# EAGLE library part IDE40 (library conn)
40 pin IDE connector.
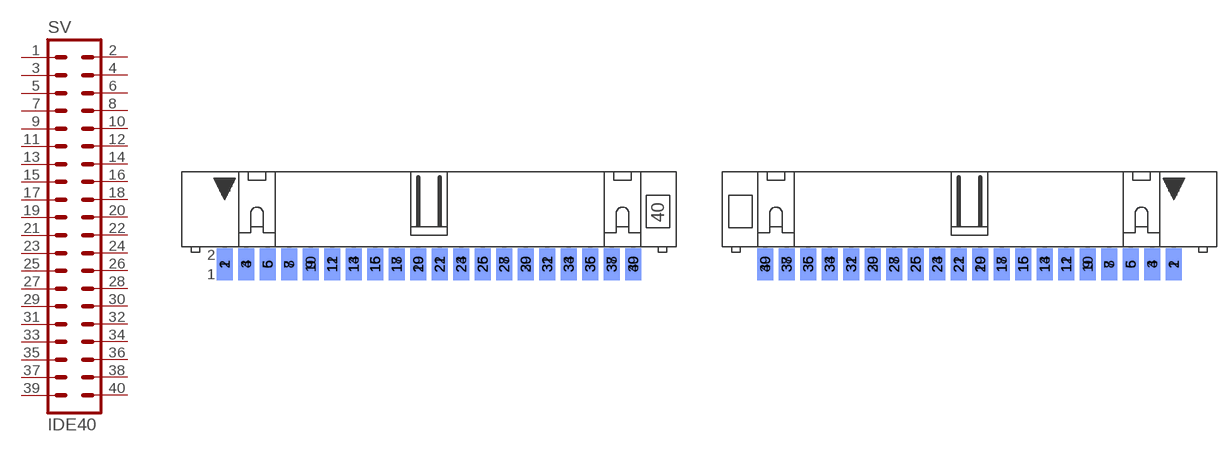
[diagram p0: symbol with the pads of ML40SMD; footprints ML40SMD, ML40SMDF]

Designator prefix SV

## IDE40  [ML40SMD]
1  !RESET!  pas
2  GND  pas
3  D7  pas
4  D8  pas
5  D6  pas
6  D9  pas
7  D5  pas
8  D10  pas
9  D4  pas
10  D11  pas
11  D3  pas
12  D12  pas
13  D2  pas
14  D13  pas
15  D1  pas
16  D14  pas
17  D0  pas
18  D15  pas
19  GND  pas
20  KEY  pas
21  DMARQ  pas
22  GND  pas
23  !IOW!  pas
24  GND  pas
25  !IOR!  pas
26  GND  pas
27  IORDY  pas
28  CSEL  pas
29  !DMACK!  pas
30  GND  pas
31  INTRQ  pas
32  !IOCS16!  pas
33  A1  pas
34  DIAG  pas
35  A0  pas
36  A2  pas
37  !CS0!  pas
38  !CS1!  pas
39  !ACTIVE!  pas
40  GND  pas

## IDE40F  [ML40SMDF]
Pads as for ML40SMD

## Footprint ML40SMD (pad centres in mm)
smd 1.93 x 3.81: 1 -24.13,0; 3 -21.59,0; 5 -19.05,0; 7 -16.51,0; 9 -13.97,0; 11 -11.43,0; 13 -8.89,0; 15 -6.35,0; 17 -3.81,0; 19 -1.27,0; 21 1.27,0; 23 3.81,0; 25 6.35,0; 27 8.89,0; 29 11.43,0; 31 13.97,0; 33 16.51,0; 35 19.05,0; 37 21.59,0; 39 24.13,0
smd 1.93 x 3.81 bottom: 2 -24.13,0; 4 -21.59,0; 6 -19.05,0; 8 -16.51,0; 10 -13.97,0; 12 -11.43,0; 14 -8.89,0; 16 -6.35,0; 18 -3.81,0; 20 -1.27,0; 22 1.27,0; 24 3.81,0; 26 6.35,0; 28 8.89,0; 30 11.43,0; 32 13.97,0; 34 16.51,0; 36 19.05,0; 38 21.59,0; 40 24.13,0

## Footprint ML40SMDF (pad centres in mm)
smd 1.93 x 3.81: 1 24.13,0; 3 21.59,0; 5 19.05,0; 7 16.51,0; 9 13.97,0; 11 11.43,0; 13 8.89,0; 15 6.35,0; 17 3.81,0; 19 1.27,0; 21 -1.27,0; 23 -3.81,0; 25 -6.35,0; 27 -8.89,0; 29 -11.43,0; 31 -13.97,0; 33 -16.51,0; 35 -19.05,0; 37 -21.59,0; 39 -24.13,0
smd 1.93 x 3.81 bottom: 2 24.13,0; 4 21.59,0; 6 19.05,0; 8 16.51,0; 10 13.97,0; 12 11.43,0; 14 8.89,0; 16 6.35,0; 18 3.81,0; 20 1.27,0; 22 -1.27,0; 24 -3.81,0; 26 -6.35,0; 28 -8.89,0; 30 -11.43,0; 32 -13.97,0; 34 -16.51,0; 36 -19.05,0; 38 -21.59,0; 40 -24.13,0